# Altium integrated library 0705530003.IntLib: 1 symbol
Pins are listed as number, name and electrical type; pins without a type are passive.

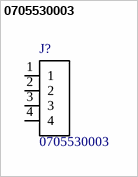
[diagram p0: symbol 0705530003]

## 0705530003
designator J?
/ Conn Shrouded Header HDR 4 POS 2.54mm Solder RA Thru-Hole SLÃƒÂ¢Ã¢Â€ÂžÂ¢ Tube /; MF: Molex; Package: None; MP: 0705530003; Digi-Key_Purchase_URL: https://www.digikey.com/product-detail/en/molex/0705530003/WM4902-ND/114959?utm_source=snapeda&utm_medium=aggregator&utm_campaign=symbol; SnapEDA_Link: https://www.snapeda.com/parts/0705530003/Molex/view-part/?ref=snap; Digi-Key_Part_Number: WM4902-ND; Value: *
footprint *MOLEX_0705530003
pins: 1, 2, 3, 4